# Altium footprint library 0672984090-1.PcbLib: 1 footprints
Each footprint in its own frame and in the unit in brackets; x right, y up, seen from the top. Pads: shape width x height; smd on the part's side, far side on the other; paste and mask are expansions set on the pad; w line width, h text height; cw(c..) or ccw(c..) is an arc to the next point about the centre after c.
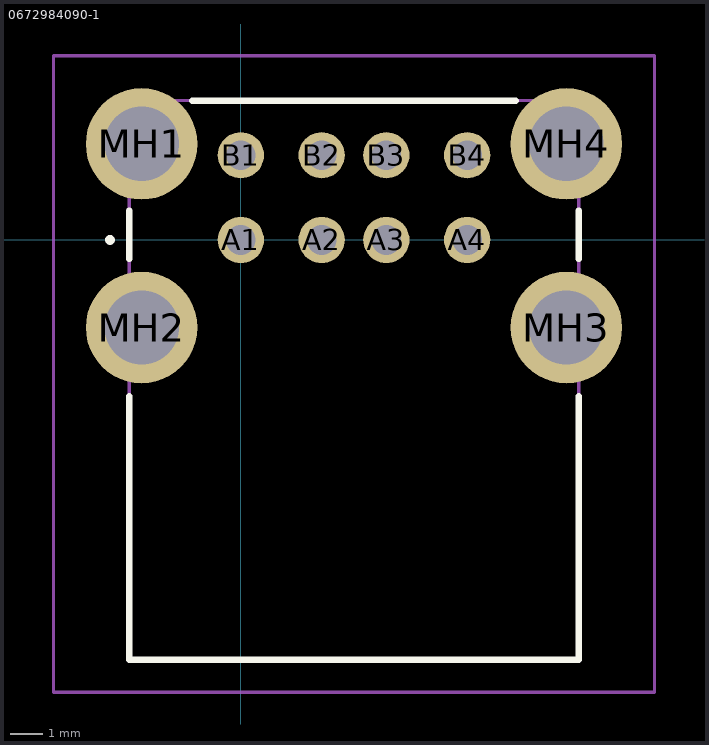
[diagram p0: the footprint, top view; thin cyan lines are the x and y axes]

## 0672984090-1 [mm]
pads (12):
  round 1.431 hole 0.92: A1(0,0) A2(2.5,0) A3(4.5,0) A4(7,0) B1(0,2.62) B2(2.5,2.62) B3(4.5,2.62) B4(7,2.62)
  round 3.45 hole 2.3: MH1(-3.07,2.97) MH2(-3.07,-2.71) MH3(10.07,-2.71) MH4(10.07,2.97)
Top Overlay:
  lines w0.2: -4.1,0 -4.1,0 ; -4.1,0 ccw(c-4.05,0) -4,0 ; -4.1,0 cw(c-4.05,0) -4,0 ; -4.1,0 -4,0 ; -4,0 -4,0 ; -3.45,-12.99 -3.45,-4.84 ; -3.45,-12.99 -3.45,-12.99 ; -3.45,-12.99 -3.45,-4.84 ; -3.45,-12.99 10.45,-12.99 ; -3.45,-12.99 10.45,-12.99 ; -3.45,-12.99 -3.45,-12.99 ; -3.45,-4.84 -3.45,-4.84 ; -3.45,-0.59 -3.45,0.91 ; -3.45,-0.59 -3.45,-0.59 ; -3.45,-0.59 -3.45,0.91 ; -3.45,0.91 -3.45,0.91 ; -1.5,4.31 8.5,4.31 ; -1.5,4.31 8.5,4.31 ; -1.5,4.31 -1.5,4.31 ; 8.5,4.31 8.5,4.31 ; 10.45,-12.99 10.45,-12.99 ; 10.45,-12.99 10.45,-12.99 ; 10.45,-12.99 10.45,-4.84 ; 10.45,-12.99 10.45,-4.84 ; 10.45,-4.84 10.45,-4.84 ; 10.45,-0.59 10.45,-0.59 ; 10.45,-0.59 10.45,0.91 ; 10.45,-0.59 10.45,0.91 ; 10.45,0.91 10.45,0.91
Mechanical 15:
  lines w0.1: -3.45,-12.99 10.45,-12.99 10.45,4.31 -3.45,4.31 -3.45,-12.99
Mechanical 20:
  lines w0.1: -5.795,-13.99 12.795,-13.99 12.795,5.695 -5.795,5.695 -5.795,-13.99